# EAGLE library part MEC1-105-02-X-D-RA1-SL-MATE (library samtec)
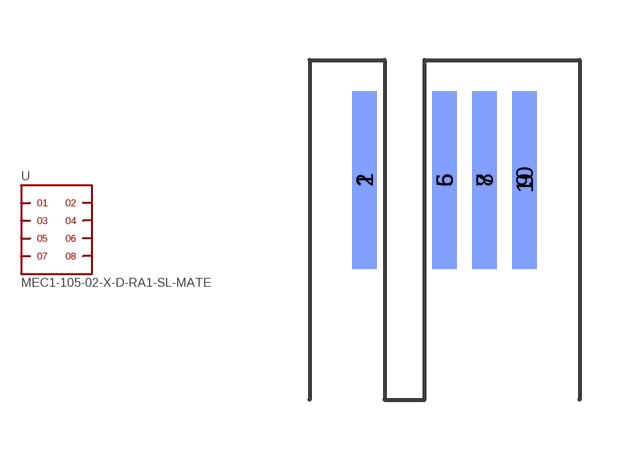
[diagram p19: symbol with the pads of MEC1-105-02-X-D-RA1-SL-MATE; footprint MEC1-105-02-X-D-RA1-SL-MATE]

Designator prefix -

## MEC1-105-02-X-D-RA1-SL-MATE  [MEC1-105-02-X-D-RA1-SL-MATE]
1  1
2  2
5  3
6  4
7  5
8  6
9  7
10  8

## Footprint MEC1-105-02-X-D-RA1-SL-MATE (pad centres in mm)
smd 0.61 x 4.45: 1 -2,0.762; 5 0,0.762; 7 1,0.762; 9 2,0.762
smd 0.61 x 4.45 bottom: 2 -2,0.762; 6 0,0.762; 8 1,0.762; 10 2,0.762